# Altium integrated library st.IntLib: 1 symbol
Pins are listed as number, name and electrical type; pins without a type are passive.

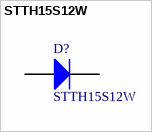
[diagram p0: symbol STTH15S12W]

## STTH15S12W
designator D?
DIODE GEN PURP 1.2KV 15A DO247
footprint TO-220AC (TO, Thru-Hole, Vertical, Heatsink Mounted; 3 In-Line Leads (1 Absent); Pitch 2.54 mm)
pins: 1 K, 3 A